# EAGLE library part LV-EZ1 (library Componentes)
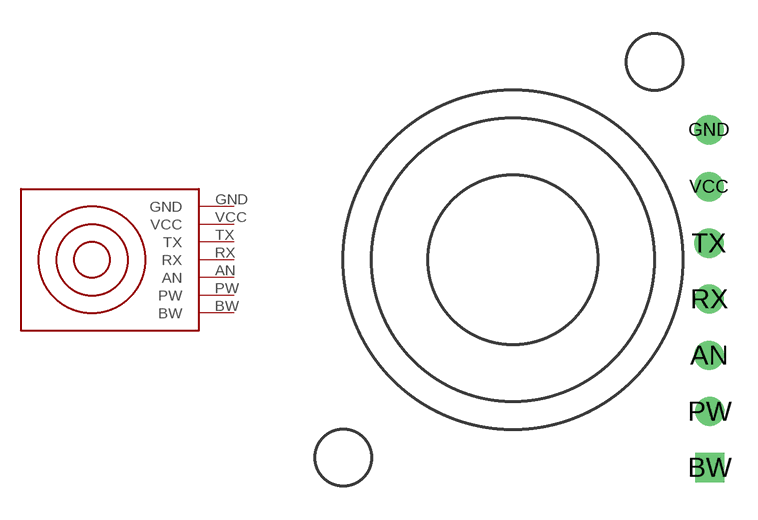
[diagram p1: symbol with the pads of LV-EZ1; footprint LV-EZ1]

Designator prefix -

## LV-EZ1  [LV-EZ1]
AN  AN
BW  BW
GND  GND
PW  PW
RX  RX
TX  TX
VCC  VCC

## Footprint LV-EZ1 (pad centres in mm)
drill 0.8: AN 8.807,-4.289; GND 8.801,5.829; PW 8.833,-6.81; RX 8.814,-1.765; TX 8.804,0.743; VCC 8.804,3.277
drill 0.8 square: BW 8.833,-9.328